# Altium schematic symbol library Thermister.Schlib: 1 symbol
Pins are listed as number, name and electrical type; pins without a type are passive.

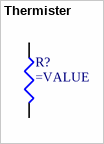
[diagram p0: symbol Thermister]

## Thermister
designator R?
Resistor
footprint 0603P (Polarized 0603)
pins: 1, 2
2 alternate drawings of the same symbol